# EAGLE library part SPI_SCREEN (library Custom_Library)
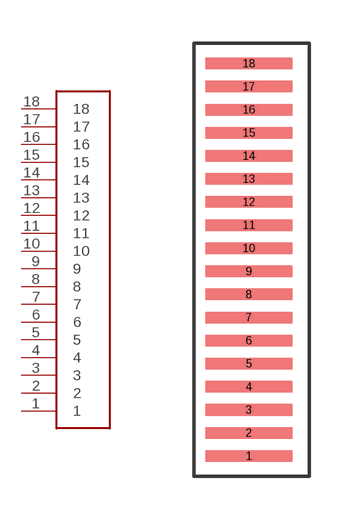
[diagram p33: symbol with the pads of SPI_SCREEN; footprint SPI_SCREEN]

Designator prefix SCREEN

## SPI_SCREEN  [SPI_SCREEN]
1  1
2  2
3  3
4  4
5  5
6  6
7  7
8  8
9  9
10  10
11  11
12  12
13  13
14  14
15  15
16  16
17  17
18  18

## Footprint SPI_SCREEN (pad centres in mm)
smd 3 x 0.4: 1 0,0; 2 0,0.8; 3 0,1.6; 4 0,2.4; 5 0,3.2; 6 0,4; 7 0,4.8; 8 0,5.6; 9 0,6.4; 10 0,7.2; 11 0,8; 12 0,8.8; 13 0,9.6; 14 0,10.4; 15 0,11.2; 16 0,12; 17 0,12.8; 18 0,13.6